# EAGLE library part LMZ23610TZ/NOPB (library DC-DC Converter)
DC DC CONVERTER 0.8-6V 10A Manufacturer's datasheet <http://www.ti.com/lit/ds/symlink/lmz23610.pdf?HQS=TI-null-null-digikeymode-df-pf-null-wwe&ts=1591254976837>
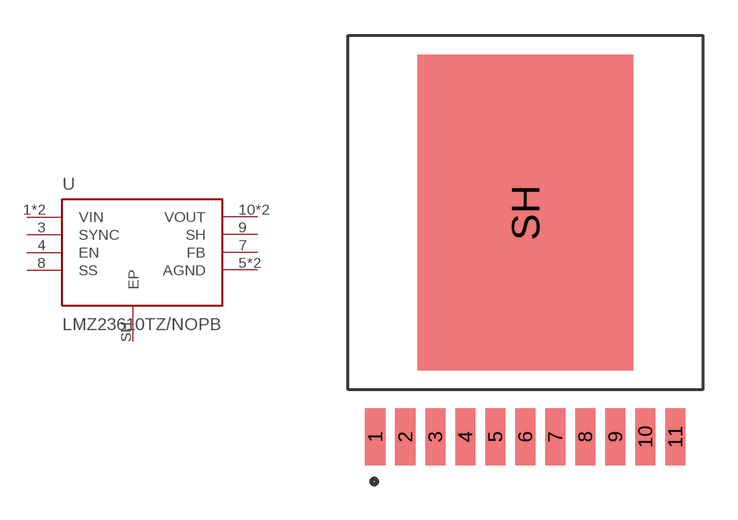
[diagram p4: symbol with the pads of LMZ23610TZ/NOPB; footprint LMZ23610TZ/NOPB]

Designator prefix U

## LMZ23610TZ/NOPB (CREATED_BY: PCBLayout.com; DIGIKEY_PARTNO: LMZ23610TZ/NOPB-ND; MANUFACTURER: Texas Instruments; MPN: LMZ23610TZ/NOPB)  [LMZ23610TZ/NOPB]
1  VIN  pwr
2  VIN  pwr
3  SYNC  in
4  EN  in
5  AGND  pwr
6  AGND  pwr
7  FB  pas
8  SS  in
9  SH  pas
10  VOUT  pwr
11  VOUT  pwr
SH  EP  pwr

## Footprint LMZ23610TZ/NOPB (pad centres in mm)
smd 0.86 x 2.41: 1 -6.35,-9.5; 2 -5.08,-9.5; 3 -3.81,-9.5; 4 -2.54,-9.5; 5 -1.27,-9.5; 6 0,-9.5; 7 1.27,-9.5; 8 2.54,-9.5; 9 3.81,-9.5; 10 5.08,-9.5; 11 6.35,-9.5
smd 9.126 x 13.37: SH 0,0